# EAGLE library part INA219 (library adafruit_INA219)
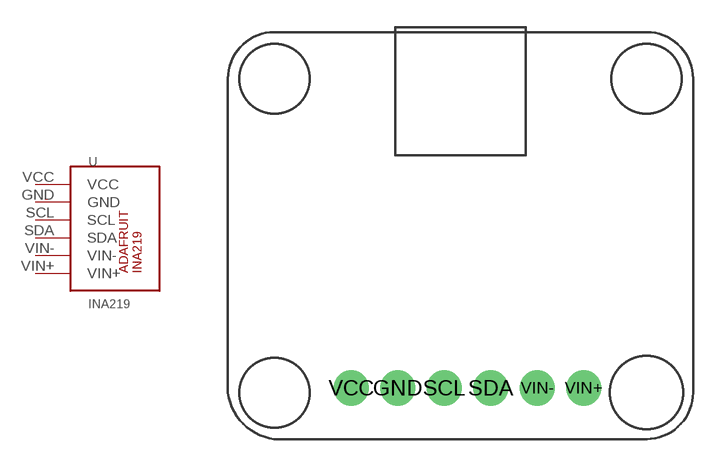
[diagram p0: symbol with the pads of INA219; footprint INA219]

Designator prefix -

## INA219  [INA219]
GND  GND
SCL  SCL
SDA  SDA
VCC  VCC
VIN+  VIN+
VIN-  VIN-

## Footprint INA219 (pad centres in mm)
drill 1.016 pad 1.93: GND 9.271,2.794; SCL 11.811,2.794; SDA 14.351,2.794; VCC 6.731,2.794; VIN+ 19.431,2.794; VIN- 16.891,2.794